# EAGLE library part MILLI-GRID-14 (library con-molex)
Milli-Grid Pin Header 2.00mm (.079") Pitch
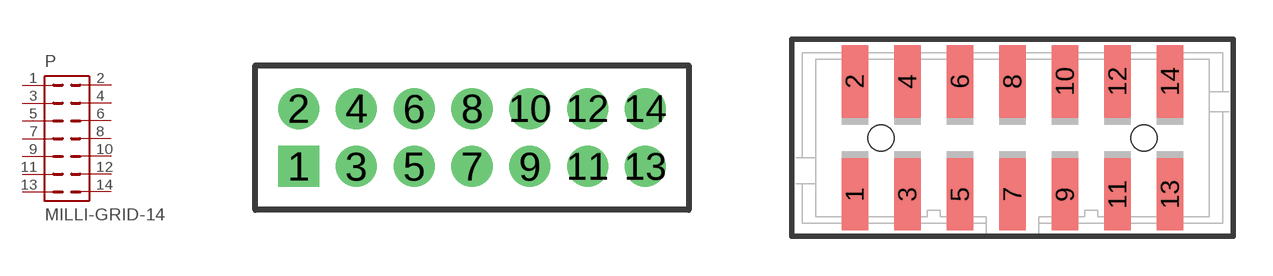
[diagram p55: symbol with the pads of 87758-14; footprints 87758-14, 87832-14]

Designator prefix P

## MILLI-GRID-14-87758  [87758-14]
1  1  pas
2  2  pas
3  3  pas
4  4  pas
5  5  pas
6  6  pas
7  7  pas
8  8  pas
9  9  pas
10  10  pas
11  11  pas
12  12  pas
13  13  pas
14  14  pas

## MILLI-GRID-14-87832  [87832-14]
Pads as for 87758-14

## MILLI-GRID-14-87759  [87759-14]
Pads as for 87758-14

## MILLI-GRID-14-79109  [79109-14]
Pads as for 87758-14

## MILLI-GRID-14-87340  [87340-14]
Pads as for 87758-14

## MILLI-GRID-14-79107  [79107-14]
Pads as for 87758-14

## MILLI-GRID-14-87264  [87264-14]
Pads as for 87758-14

## MILLI-GRID-14-87368  [87368-14]
Pads as for 87758-14

## Footprint 87758-14 (pad centres in mm)
PCB Pin Headers 2.00mm (.079") Pitch Milli-Grid Header, Vertical
drill 0.914 square: 1 -6,-1
drill 0.914: 2 -6,1; 3 -4,-1; 4 -4,1; 5 -2,-1; 6 -2,1; 7 0,-1; 8 0,1; 9 2,-1; 10 2,1; 11 4,-1; 12 4,1; 13 6,-1; 14 6,1

## Footprint 87832-14 (pad centres in mm)
PCB Headers 2.00mm (.079") Pitch Milli-Grid Header, Vertical, Shrouded
smd 1 x 2.75: 1 -6,-2.15; 2 -6,2.15; 3 -4,-2.15; 4 -4,2.15; 5 -2,-2.15; 6 -2,2.15; 7 0,-2.15; 8 0,2.15; 9 2,-2.15; 10 2,2.15; 11 4,-2.15; 12 4,2.15; 13 6,-2.15; 14 6,2.15
hole 1 at -5,0
hole 1 at 5,0

## Footprint 87759-14 (pad centres in mm)
PCB Pin Headers 2.00mm (.079") Pitch Milli-Grid Header, Vertical SMD
smd 1 x 2.75: 1 -6,-2.15; 2 -6,2.15; 3 -4,-2.15; 4 -4,2.15; 5 -2,-2.15; 6 -2,2.15; 7 0,-2.15; 8 0,2.15; 9 2,-2.15; 10 2,2.15; 11 4,-2.15; 12 4,2.15; 13 6,-2.15; 14 6,2.15
hole 1 at -5,0
hole 1 at 5,0

## Footprint 79109-14 (pad centres in mm)
Board-to-Board Receptacal 2.00mm (.079") Pitch Milli-Grid Header, Vertical, Top/Bottom Entry Mates with: 87758, 87759, 87760, 87831, 87832, 87833
smd 1.12 x 1.83: 1 -6,-2.65; 2 -6,2.65; 3 -4,-2.65; 4 -4,2.65; 5 -2,-2.65; 6 -2,2.65; 7 0,-2.65; 8 0,2.65; 9 2,-2.65; 10 2,2.65; 11 4,-2.65; 12 4,2.65; 13 6,-2.65; 14 6,2.65
hole 0.914 at -5,0
hole 0.914 at -6,1
hole 0.914 at -6,-1
hole 0.914 at -4,-1
hole 0.914 at -4,1
hole 0.914 at -2,-1
hole 0.914 at -2,1
hole 0.914 at 5,0
hole 0.914 at 0,1
hole 0.914 at 0,-1
hole 0.914 at 2,1
hole 0.914 at 2,-1
hole 0.914 at 4,1
hole 0.914 at 4,-1
hole 0.914 at 6,1
hole 0.914 at 6,-1

## Footprint 87340-14 (pad centres in mm)
Board-To-Board Receptacal 2.00mm (.079") Pitch Milli-Grid Header, Vertical, Top/Bottom Entry Mates with: 87758, 87759, 87760, 87831, 87832, 87833
smd 1 x 1.75: 1 -6,-2.5; 2 -6,2.5; 3 -4,-2.5; 4 -4,2.5; 5 -2,-2.5; 6 -2,2.5; 7 0,-2.5; 8 0,2.5; 9 2,2.5; 10 2,-2.5; 11 4,-2.5; 12 4,2.5; 13 6,2.5; 14 6,-2.5
hole 0.914 at -7,0
hole 0.914 at -6,1
hole 0.914 at -6,-1
hole 0.914 at -4,-1
hole 0.914 at -4,1
hole 0.914 at 7,0
hole 0.914 at -2,1
hole 0.914 at -2,-1
hole 0.914 at 0,1
hole 0.914 at 0,-1
hole 0.914 at 2,-1
hole 0.914 at 2,1
hole 0.914 at 4,1
hole 0.914 at 4,-1
hole 0.914 at 6,1
hole 0.914 at 6,-1

## Footprint 79107-14 (pad centres in mm)
Board-To-Board Receptacal 2.00mm (.079") Pitch Milli-Grid Header, Vertical, Through-Hole Mates with: 87759, 87762, 87758, 87760
drill 0.914 square: 1 -6,-1
drill 0.914: 2 -6,1; 3 -4,-1; 4 -4,1; 5 -2,-1; 6 -2,1; 7 0,-1; 8 0,1; 9 2,-1; 10 2,1; 11 4,-1; 12 4,1; 13 6,-1; 14 6,1

## Footprint 87264-14 (pad centres in mm)
Board-To-Board Receptacal 2.00mm (.079") Pitch Milli-Grid Header, Side Entry Mates with 2mm(.079") Mill-Grid Header
drill 0.914 square: 1 -6,-2.25
drill 0.914: 2 -6,2.25; 3 -4,-2.25; 4 -4,2.25; 5 -2,-2.25; 6 -2,2.25; 7 0,-2.25; 8 0,2.25; 9 2,-2.25; 10 2,2.25; 11 4,-2.25; 12 4,2.25; 13 6,-2.25; 14 6,2.25

## Footprint 87368-14 (pad centres in mm)
Board-To-Board Receptacal 2.00mm (.079") Pitch Milli-Grid Header, Side Entry SMD Mates with 2mm(.079") Mill-Grid Header
smd 1 x 2.8: 1 -6,-3.1; 2 -6,3.1; 3 -4,-3.1; 4 -4,3.1; 5 -2,-3.1; 6 -2,3.1; 7 0,-3.1; 8 0,3.1; 9 2,-3.1; 10 2,3.1; 11 4,-3.1; 12 4,3.1; 13 6,-3.1; 14 6,3.1
hole 0.914 at -6,0
hole 0.914 at 0,0